# EAGLE library part RFM22B (library PocketCube)
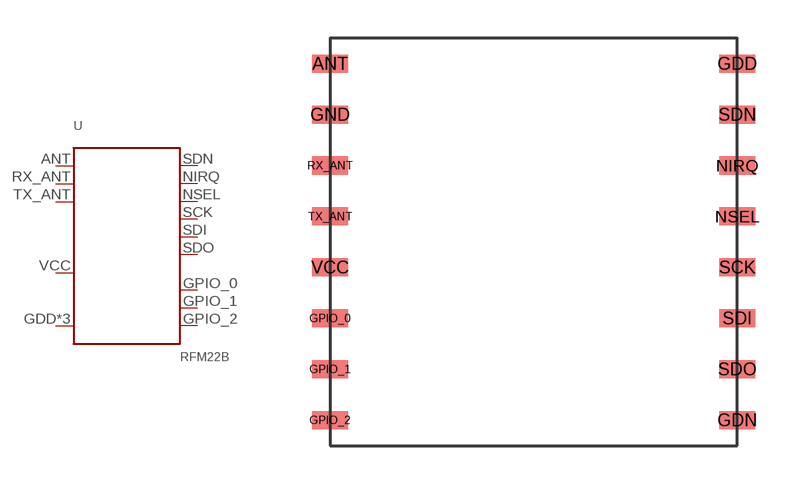
[diagram p4: symbol with the pads of RFM22B; footprint RFM22B]

Designator prefix -

## RFM22B  [RFM22B]
ANT  ANT
GDD  GND
GDN  GND
GND  GND
GPIO_0  GPIO_0
GPIO_1  GPIO_1
GPIO_2  GPIO_2
NIRQ  NIRQ
NSEL  NSEL
RX_ANT  RX_ANT
SCK  SCK
SDI  SDI
SDN  SDN
SDO  SDO
TX_ANT  TX_ANT
VCC  VCC

## Footprint RFM22B (pad centres in mm)
smd 1.422 x 0.711: ANT 0,16; GDD 16,16; GDN 16,2; GND 0,14; GPIO_0 0,6; GPIO_1 0,4; GPIO_2 0,2; NIRQ 16,12; NSEL 16,10; RX_ANT 0,12; SCK 16,8; SDI 16,6; SDN 16,14; SDO 16,4; TX_ANT 0,10; VCC 0,8